# Altium footprint library PDIP-16.PcbLib: 1 footprints
Each footprint in its own frame and in the unit in brackets; x right, y up, seen from the top. Pads: shape width x height; smd on the part's side, far side on the other; paste and mask are expansions set on the pad; w line width, h text height; cw(c..) or ccw(c..) is an arc to the next point about the centre after c.
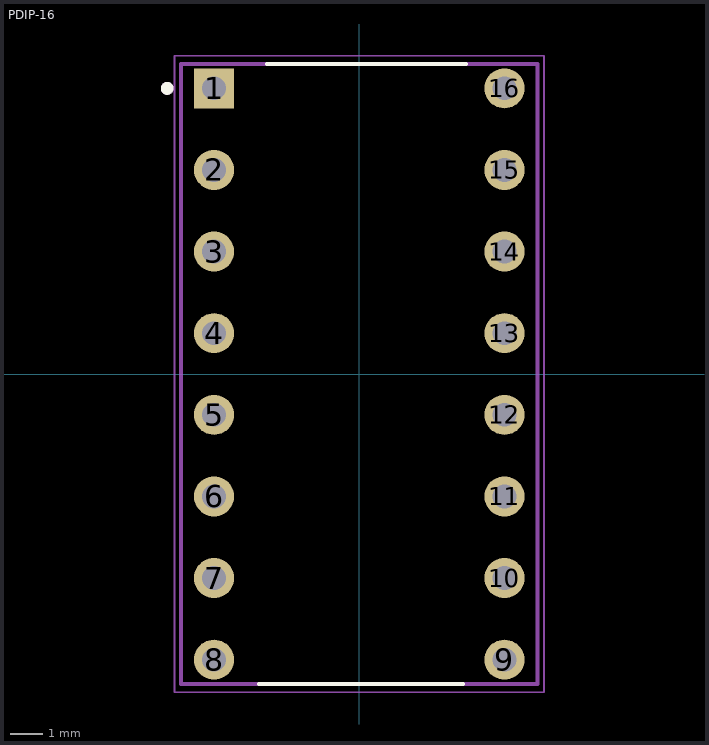
[diagram p0: the footprint, top view; thin cyan lines are the x and y axes]

## PDIP-16 [mm]
height 5.08
pads (16):
  rect 1.248x1.248 hole 0.74: 1(-4.52,8.89)
  round 1.248 hole 0.74: 2(-4.52,6.35) 3(-4.52,3.81) 4(-4.52,1.27) 5(-4.52,-1.27) 6(-4.52,-3.81) 7(-4.52,-6.35) 8(-4.52,-8.89) 9(4.52,-8.89) 10(4.52,-6.35) 11(4.52,-3.81) 12(4.52,-1.27) 13(4.52,1.27) 14(4.52,3.81) 15(4.52,6.35) 16(4.52,8.89)
Top Overlay:
  circle w0.2: c-5.977,8.89 r0.1
  lines w0.127: -3.125,-9.653 3.225,-9.653 ; -2.876,9.653 3.325,9.653
Mechanical 13:
  circle w0.2: c-5.977,8.89 r0.1
  lines w0.127: -5.55,-9.653 -5.55,9.653 5.55,9.653 5.55,-9.653 -5.55,-9.653
Mechanical 15:
  lines w0.05: -5.75,-9.902 5.75,-9.902 5.75,9.902 -5.75,9.902 -5.75,-9.902
3D body "step_temp.STEP": height 5.08, standoff -3.17, extent -5.419,-9.652 5.503,9.652